# EAGLE library part 74LVC1G157GV-Q100H (library SamacSys_Parts)
NXP - 74LVC1G157GV-Q100H - MUX, SINGLE, 2 I/P, SC-74-6 Source: Datasheet <https://assets.nexperia.com/documents/data-sheet/74LVC1G157_Q100.pdf>
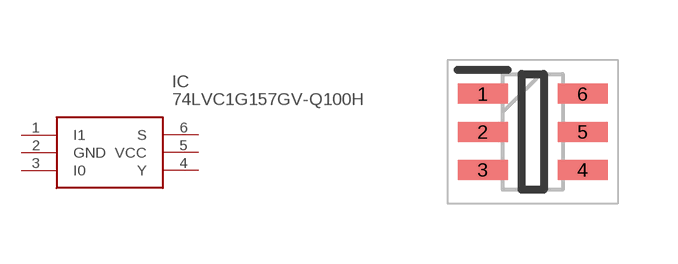
[diagram p175: symbol with the pads of SOT95P275X110-6N; footprint SOT95P275X110-6N]

Designator prefix IC

## 74LVC1G157GV-Q100H (DESCRIPTION: NXP - 74LVC1G157GV-Q100H - MUX, SINGLE, 2 I/P, SC-74-6; HEIGHT: 1.1mm; MANUFACTURER_NAME: Nexperia; MANUFACTURER_PART_NUMBER: 74LVC1G157GV-Q100H; MOUSER_PART_NUMBER: 771-74LVC1G157GVQ100; MOUSER_PRICE-STOCK: https://www.mouser.co.uk/ProductDetail/Nexperia/74LVC1G157GV-Q100H?qs=5XOdhvmYM0Nhlh6GR9ENlQ%3D%3D)  [SOT95P275X110-6N]
1  I1
2  GND
3  I0
4  Y
5  VCC
6  S

## Footprint SOT95P275X110-6N (pad centres in mm)
SOT457 (SC-74)
smd 1.25 x 0.5: 1 -1.25,0.95; 2 -1.25,0; 3 -1.25,-0.95; 4 1.25,-0.95; 5 1.25,0; 6 1.25,0.95